# Altium footprint library DC-L-Z-2.54简牛立式直插插座4P-50P.PcbLib: 24 footprints (part 2 of 2)
Each footprint in its own frame and in the unit in brackets; x right, y up, seen from the top. Pads: shape width x height; smd on the part's side, far side on the other; paste and mask are expansions set on the pad; w line width, h text height; cw(c..) or ccw(c..) is an arc to the next point about the centre after c.
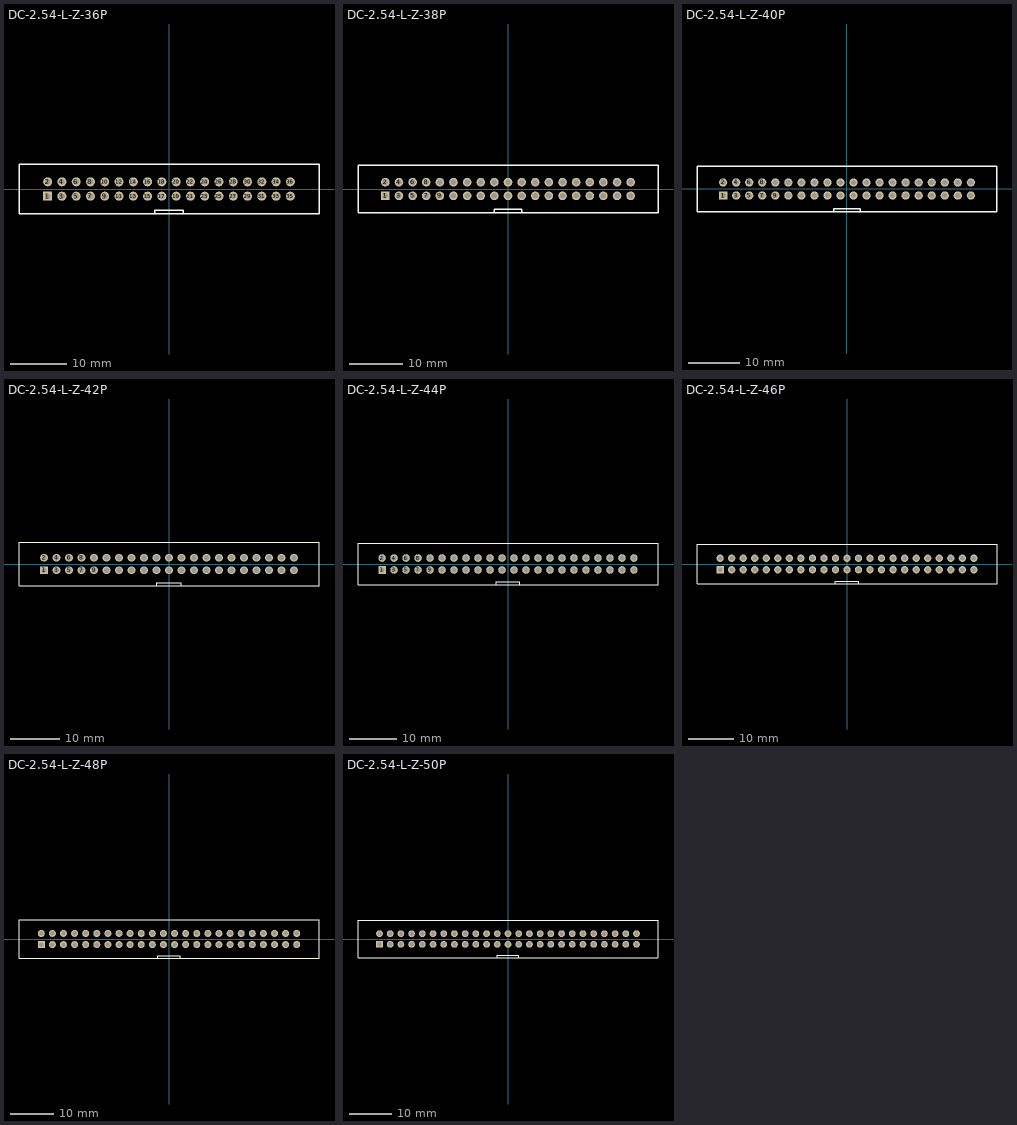
[diagram p1: the footprints below, top view; thin cyan lines are the x and y axes]

## DC-2.54-L-Z-36P [mm] "立式直插简牛插座，间距2.54（蒜米工坊）"
pads (36):
  rect 1.6x1.6 hole 1.02: 1(-21.59,-1.27)
  round 1.6 hole 1.02: 2(-21.59,1.27) 3(-19.05,-1.27) 4(-19.05,1.27) 5(-16.51,-1.27) 6(-16.51,1.27) 7(-13.97,-1.27) 8(-13.97,1.27) 9(-11.43,-1.27) 10(-11.43,1.27) 11(-8.89,-1.27) 12(-8.89,1.27) 13(-6.35,-1.27) 14(-6.35,1.27) 15(-3.81,-1.27) 16(-3.81,1.27) 17(-1.27,-1.27) 18(-1.27,1.27) 19(1.27,-1.27) 20(1.27,1.27) 21(3.81,-1.27) 22(3.81,1.27) 23(6.35,-1.27) 24(6.35,1.27) 25(8.89,-1.27) 26(8.89,1.27) 27(11.43,-1.27) 28(11.43,1.27) 29(13.97,-1.27) 30(13.97,1.27) 31(16.51,-1.27) 32(16.51,1.27) 33(19.05,-1.27) 34(19.05,1.27) 35(21.59,-1.27) 36(21.59,1.27)
Top Overlay:
  lines w0.254: -2.54,-4.4 -2.54,-3.81 2.54,-3.81 2.54,-4.4 ; -26.685,-4.4 -26.685,4.4 26.685,4.4 26.685,-4.4 -26.685,-4.4
3D body "2.54牛角插座2×18P.STEP": height 8.8, standoff -3.5, extent -26.685,-4.4 26.685,4.7

## DC-2.54-L-Z-38P [mm] "立式直插简牛插座，间距2.54（蒜米工坊）"
pads (38):
  rect 1.6x1.6 hole 1.02: 1(-22.86,-1.27)
  round 1.6 hole 1.02: 2(-22.86,1.27) 3(-20.32,-1.27) 4(-20.32,1.27) 5(-17.78,-1.27) 6(-17.78,1.27) 7(-15.24,-1.27) 8(-15.24,1.27) 9(-12.7,-1.27) 10(-12.7,1.27) 11(-10.16,-1.27) 12(-10.16,1.27) 13(-7.62,-1.27) 14(-7.62,1.27) 15(-5.08,-1.27) 16(-5.08,1.27) 17(-2.54,-1.27) 18(-2.54,1.27) 19(0,-1.27) 20(0,1.27) 21(2.54,-1.27) 22(2.54,1.27) 23(5.08,-1.27) 24(5.08,1.27) 25(7.62,-1.27) 26(7.62,1.27) 27(10.16,-1.27) 28(10.16,1.27) 29(12.7,-1.27) 30(12.7,1.27) 31(15.24,-1.27) 32(15.24,1.27) 33(17.78,-1.27) 34(17.78,1.27) 35(20.32,-1.27) 36(20.32,1.27) 37(22.86,-1.27) 38(22.86,1.27)
Top Overlay:
  lines w0.254: -2.54,-4.4 -2.54,-3.81 2.54,-3.81 2.54,-4.4 ; -27.955,-4.4 27.955,-4.4 27.955,4.4 -27.955,4.4 -27.955,-4.4
3D body "2.54牛角插座2×19P.STEP": height 8.8, standoff -3.5, extent -27.955,-4.4 27.955,4.7

## DC-2.54-L-Z-40P [mm] "立式直插简牛插座，间距2.54（蒜米工坊）"
pads (40):
  rect 1.6x1.6 hole 1.02: 1(-24.13,-1.27)
  round 1.6 hole 1.02: 2(-24.13,1.27) 3(-21.59,-1.27) 4(-21.59,1.27) 5(-19.05,-1.27) 6(-19.05,1.27) 7(-16.51,-1.27) 8(-16.51,1.27) 9(-13.97,-1.27) 10(-13.97,1.27) 11(-11.43,-1.27) 12(-11.43,1.27) 13(-8.89,-1.27) 14(-8.89,1.27) 15(-6.35,-1.27) 16(-6.35,1.27) 17(-3.81,-1.27) 18(-3.81,1.27) 19(-1.27,-1.27) 20(-1.27,1.27) 21(1.27,-1.27) 22(1.27,1.27) 23(3.81,-1.27) 24(3.81,1.27) 25(6.35,-1.27) 26(6.35,1.27) 27(8.89,-1.27) 28(8.89,1.27) 29(11.43,-1.27) 30(11.43,1.27) 31(13.97,-1.27) 32(13.97,1.27) 33(16.51,-1.27) 34(16.51,1.27) 35(19.05,-1.27) 36(19.05,1.27) 37(21.59,-1.27) 38(21.59,1.27) 39(24.13,-1.27) 40(24.13,1.27)
Top Overlay:
  lines w0.254: -2.54,-4.4 -2.54,-3.81 2.54,-3.81 2.54,-4.4 ; -29.225,-4.4 29.225,-4.4 29.225,4.4 -29.225,4.4 -29.225,-4.4
3D body "2.54牛角插座2×20P.STEP": height 8.8, standoff -3.5, extent -29.225,-4.4 29.225,4.7

## DC-2.54-L-Z-42P [mm] "立式直插简牛插座，间距2.54（蒜米工坊）"
pads (42):
  rect 1.6x1.6 hole 1.02: 1(-25.4,-1.27)
  round 1.6 hole 1.02: 2(-25.4,1.27) 3(-22.86,-1.27) 4(-22.86,1.27) 5(-20.32,-1.27) 6(-20.32,1.27) 7(-17.78,-1.27) 8(-17.78,1.27) 9(-15.24,-1.27) 10(-15.24,1.27) 11(-12.7,-1.27) 12(-12.7,1.27) 13(-10.16,-1.27) 14(-10.16,1.27) 15(-7.62,-1.27) 16(-7.62,1.27) 17(-5.08,-1.27) 18(-5.08,1.27) 19(-2.54,-1.27) 20(-2.54,1.27) 21(0,-1.27) 22(0,1.27) 23(2.54,-1.27) 24(2.54,1.27) 25(5.08,-1.27) 26(5.08,1.27) 27(7.62,-1.27) 28(7.62,1.27) 29(10.16,-1.27) 30(10.16,1.27) 31(12.7,-1.27) 32(12.7,1.27) 33(15.24,-1.27) 34(15.24,1.27) 35(17.78,-1.27) 36(17.78,1.27) 37(20.32,-1.27) 38(20.32,1.27) 39(22.86,-1.27) 40(22.86,1.27) 41(25.4,-1.27) 42(25.4,1.27)
Top Overlay:
  lines w0.254: -2.54,-4.4 -2.54,-3.81 2.54,-3.81 2.54,-4.4 ; -30.495,-4.4 -30.495,4.4 30.495,4.4 30.495,-4.4 -30.495,-4.4
3D body "2.54牛角插座2×21P.STEP": height 8.8, standoff -3.5, extent -30.495,-4.4 30.495,4.7

## DC-2.54-L-Z-44P [mm] "立式直插简牛插座，间距2.54（蒜米工坊）"
pads (44):
  rect 1.6x1.6 hole 1.02: 1(-26.67,-1.27)
  round 1.6 hole 1.02: 2(-26.67,1.27) 3(-24.13,-1.27) 4(-24.13,1.27) 5(-21.59,-1.27) 6(-21.59,1.27) 7(-19.05,-1.27) 8(-19.05,1.27) 9(-16.51,-1.27) 10(-16.51,1.27) 11(-13.97,-1.27) 12(-13.97,1.27) 13(-11.43,-1.27) 14(-11.43,1.27) 15(-8.89,-1.27) 16(-8.89,1.27) 17(-6.35,-1.27) 18(-6.35,1.27) 19(-3.81,-1.27) 20(-3.81,1.27) 21(-1.27,-1.27) 22(-1.27,1.27) 23(1.27,-1.27) 24(1.27,1.27) 25(3.81,-1.27) 26(3.81,1.27) 27(6.35,-1.27) 28(6.35,1.27) 29(8.89,-1.27) 30(8.89,1.27) 31(11.43,-1.27) 32(11.43,1.27) 33(13.97,-1.27) 34(13.97,1.27) 35(16.51,-1.27) 36(16.51,1.27) 37(19.05,-1.27) 38(19.05,1.27) 39(21.59,-1.27) 40(21.59,1.27) 41(24.13,-1.27) 42(24.13,1.27) 43(26.67,-1.27) 44(26.67,1.27)
Top Overlay:
  lines w0.254: -2.54,-4.4 -2.54,-3.81 2.54,-3.81 2.54,-4.4 ; -31.765,-4.4 -31.765,4.4 31.765,4.4 31.765,-4.4 -31.765,-4.4
3D body "2.54牛角插座2×22P.STEP": height 8.8, standoff -3.5, extent -31.765,-4.4 31.765,4.7

## DC-2.54-L-Z-46P [mm] "立式直插简牛插座，间距2.54（蒜米工坊）"
pads (46):
  rect 1.6x1.6 hole 1.02: 1(-27.94,-1.27)
  round 1.6 hole 1.02: 2(-27.94,1.27) 3(-25.4,-1.27) 4(-25.4,1.27) 5(-22.86,-1.27) 6(-22.86,1.27) 7(-20.32,-1.27) 8(-20.32,1.27) 9(-17.78,-1.27) 10(-17.78,1.27) 11(-15.24,-1.27) 12(-15.24,1.27) 13(-12.7,-1.27) 14(-12.7,1.27) 15(-10.16,-1.27) 16(-10.16,1.27) 17(-7.62,-1.27) 18(-7.62,1.27) 19(-5.08,-1.27) 20(-5.08,1.27) 21(-2.54,-1.27) 22(-2.54,1.27) 23(0,-1.27) 24(0,1.27) 25(2.54,-1.27) 26(2.54,1.27) 27(5.08,-1.27) 28(5.08,1.27) 29(7.62,-1.27) 30(7.62,1.27) 31(10.16,-1.27) 32(10.16,1.27) 33(12.7,-1.27) 34(12.7,1.27) 35(15.24,-1.27) 36(15.24,1.27) 37(17.78,-1.27) 38(17.78,1.27) 39(20.32,-1.27) 40(20.32,1.27) 41(22.86,-1.27) 42(22.86,1.27) 43(25.4,-1.27) 44(25.4,1.27) 45(27.94,-1.27) 46(27.94,1.27)
Top Overlay:
  lines w0.254: -2.54,-4.4 -2.54,-3.81 2.54,-3.81 2.54,-4.4 ; -33.035,-4.4 33.035,-4.4 33.035,4.4 -33.035,4.4 -33.035,-4.4
3D body "2.54牛角插座2×23P.STEP": height 8.8, standoff -3.5, extent -33.035,-4.4 33.035,4.7

## DC-2.54-L-Z-48P [mm] "立式直插简牛插座，间距2.54（蒜米工坊）"
pads (48):
  rect 1.6x1.6 hole 1.02: 1(-29.21,-1.27)
  round 1.6 hole 1.02: 2(-29.21,1.27) 3(-26.67,-1.27) 4(-26.67,1.27) 5(-24.13,-1.27) 6(-24.13,1.27) 7(-21.59,-1.27) 8(-21.59,1.27) 9(-19.05,-1.27) 10(-19.05,1.27) 11(-16.51,-1.27) 12(-16.51,1.27) 13(-13.97,-1.27) 14(-13.97,1.27) 15(-11.43,-1.27) 16(-11.43,1.27) 17(-8.89,-1.27) 18(-8.89,1.27) 19(-6.35,-1.27) 20(-6.35,1.27) 21(-3.81,-1.27) 22(-3.81,1.27) 23(-1.27,-1.27) 24(-1.27,1.27) 25(1.27,-1.27) 26(1.27,1.27) 27(3.81,-1.27) 28(3.81,1.27) 29(6.35,-1.27) 30(6.35,1.27) 31(8.89,-1.27) 32(8.89,1.27) 33(11.43,-1.27) 34(11.43,1.27) 35(13.97,-1.27) 36(13.97,1.27) 37(16.51,-1.27) 38(16.51,1.27) 39(19.05,-1.27) 40(19.05,1.27) 41(21.59,-1.27) 42(21.59,1.27) 43(24.13,-1.27) 44(24.13,1.27) 45(26.67,-1.27) 46(26.67,1.27) 47(29.21,-1.27) 48(29.21,1.27)
Top Overlay:
  lines w0.254: -2.54,-4.4 -2.54,-3.81 2.54,-3.81 2.54,-4.4 ; -34.305,-4.4 34.305,-4.4 34.305,4.4 -34.305,4.4 -34.305,-4.4
3D body "2.54牛角插座2×24P.STEP": height 8.8, standoff -3.5, extent -34.305,-4.4 34.305,4.7

## DC-2.54-L-Z-50P [mm] "立式直插简牛插座，间距2.54（蒜米工坊）"
pads (50):
  rect 1.6x1.6 hole 1.02: 1(-30.48,-1.27)
  round 1.6 hole 1.02: 2(-30.48,1.27) 3(-27.94,-1.27) 4(-27.94,1.27) 5(-25.4,-1.27) 6(-25.4,1.27) 7(-22.86,-1.27) 8(-22.86,1.27) 9(-20.32,-1.27) 10(-20.32,1.27) 11(-17.78,-1.27) 12(-17.78,1.27) 13(-15.24,-1.27) 14(-15.24,1.27) 15(-12.7,-1.27) 16(-12.7,1.27) 17(-10.16,-1.27) 18(-10.16,1.27) 19(-7.62,-1.27) 20(-7.62,1.27) 21(-5.08,-1.27) 22(-5.08,1.27) 23(-2.54,-1.27) 24(-2.54,1.27) 25(0,-1.27) 26(0,1.27) 27(2.54,-1.27) 28(2.54,1.27) 29(5.08,-1.27) 30(5.08,1.27) 31(7.62,-1.27) 32(7.62,1.27) 33(10.16,-1.27) 34(10.16,1.27) 35(12.7,-1.27) 36(12.7,1.27) 37(15.24,-1.27) 38(15.24,1.27) 39(17.78,-1.27) 40(17.78,1.27) 41(20.32,-1.27) 42(20.32,1.27) 43(22.86,-1.27) 44(22.86,1.27) 45(25.4,-1.27) 46(25.4,1.27) 47(27.94,-1.27) 48(27.94,1.27) 49(30.48,-1.27) 50(30.48,1.27)
Top Overlay:
  lines w0.254: -2.54,-4.4 -2.54,-3.81 2.54,-3.81 2.54,-4.4 ; 35.52,-4.4 -35.575,-4.4 -35.575,4.4 35.575,4.4 35.575,-4.4
3D body "2.54牛角插座2×25P.STEP": height 8.8, standoff -3.5, extent -35.575,-4.4 35.575,4.7